# Altium integrated library quartz.IntLib: 1 symbol
Pins are listed as number, name and electrical type; pins without a type are passive.

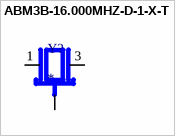
[diagram p0: symbol ABM3B-16.000MHZ-D-1-X-T]

## ABM3B-16.000MHZ-D-1-X-T
designator Y?
16 MHz Â±10ppm Crystal 18pF 50 Ohms 4-SMD, No Lead; MP: ABM3B-16.000MHZ-D-1-X-T; MF: ABRACON; Availability: In Stock; SnapEDA_Link: https://www.snapeda.com/parts/ABM3B-16.000MHZ-D-1-X-T/Abracon/view-part/?ref=snap; Package: SMD-4 Abracon LLC; Value: *; Price: None; Purchase-URL: https://pricing.snapeda.com/search/part/ABM3B-16.000MHZ-D-1-X-T/?ref=eda; Check_prices: https://www.snapeda.com/parts/ABM3B-16.000MHZ-D-1-X-T/Abracon/view-part/?ref=eda
footprint OSC_ABM3B-16.000MHZ-D-1-X-T
pins: 1, 2 GND (power), 3, 4 GND (power)